# Altium footprint library CUI_UJ32-C-H-G-H2-SMT-TR.PcbLib: 1 footprints
Each footprint in its own frame and in the unit in brackets; x right, y up, seen from the top. Pads: shape width x height; smd on the part's side, far side on the other; paste and mask are expansions set on the pad; w line width, h text height; cw(c..) or ccw(c..) is an arc to the next point about the centre after c.
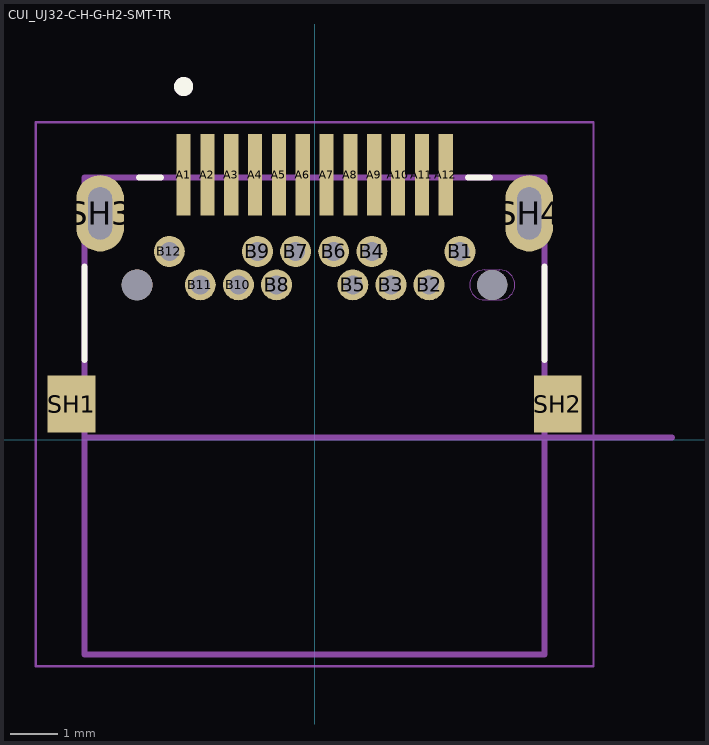
[diagram p0: the footprint, top view; thin cyan lines are the x and y axes]

## CUI_UJ32-C-H-G-H2-SMT-TR [mm]
pads (30):
  rect 0.3x1.7 smd mask+0.05: A1(-2.75,5.56) A2(-2.25,5.56) A3(-1.75,5.56) A4(-1.25,5.56) A5(-0.75,5.56) A6(-0.25,5.56) A7(0.25,5.56) A8(0.75,5.56) A9(1.25,5.56) A10(1.75,5.56) A11(2.25,5.56) A12(2.75,5.56)
  round 0.65 hole 0.4: B1(3.05,3.95) B2(2.4,3.25) B3(1.6,3.25) B4(1.2,3.95) B5(0.8,3.25) B6(0.4,3.95) B7(-0.4,3.95) B8(-0.8,3.25) B9(-1.2,3.95) B10(-1.6,3.25) B11(-2.4,3.25) B12(-3.05,3.95)
  rect 1x1.2 smd: SH1(-5.1,0.75) SH2(5.1,0.75)
  oval 1x1.6 hole 0.5 slot 1.1 at 90 deg: SH3(-4.5,4.75) SH4(4.5,4.75)
  round 0.65 hole 0.65 unplated: ""(-3.725,3.25)
  round 0.63 hole 0.63 unplated: ""(3.725,3.25)
Top Overlay:
  circle w0.2: c-2.75,7.41 r0.1
  lines w0.127: -4.825,1.67 -4.825,3.63 ; -3.68,5.5 -3.22,5.5 ; 3.22,5.5 3.68,5.5 ; 4.825,1.67 4.825,3.63
Mechanical 1:
  lines w0: 3.25,3.25 cw(c3.565,3.25) 3.565,3.565 3.885,3.565 cw(c3.885,3.25) 4.2,3.25 cw(c3.885,3.25) 3.885,2.935 3.565,2.935 cw(c3.565,3.25) 3.25,3.25
Mechanical 13:
  circle w0.2: c-2.75,7.41 r0.1
  lines w0.127: 7.5,0.05 -4.825,0.05 ; -4.825,0.05 -4.825,-4.5 4.825,-4.5 4.825,5.5 -4.825,5.5 -4.825,0.05
  text "PCB Edge" at 6.5,0.15 h0.61
Mechanical 15:
  lines w0.05: -5.85,-4.75 -5.85,6.66 5.85,6.66 5.85,-4.75 -5.85,-4.75